# Altium integrated library Panasonic Relays Power Relays (Over 2A).IntLib: 286 symbols (part 1 of 8)
Pins are listed as number, name and electrical type; pins without a type are passive.

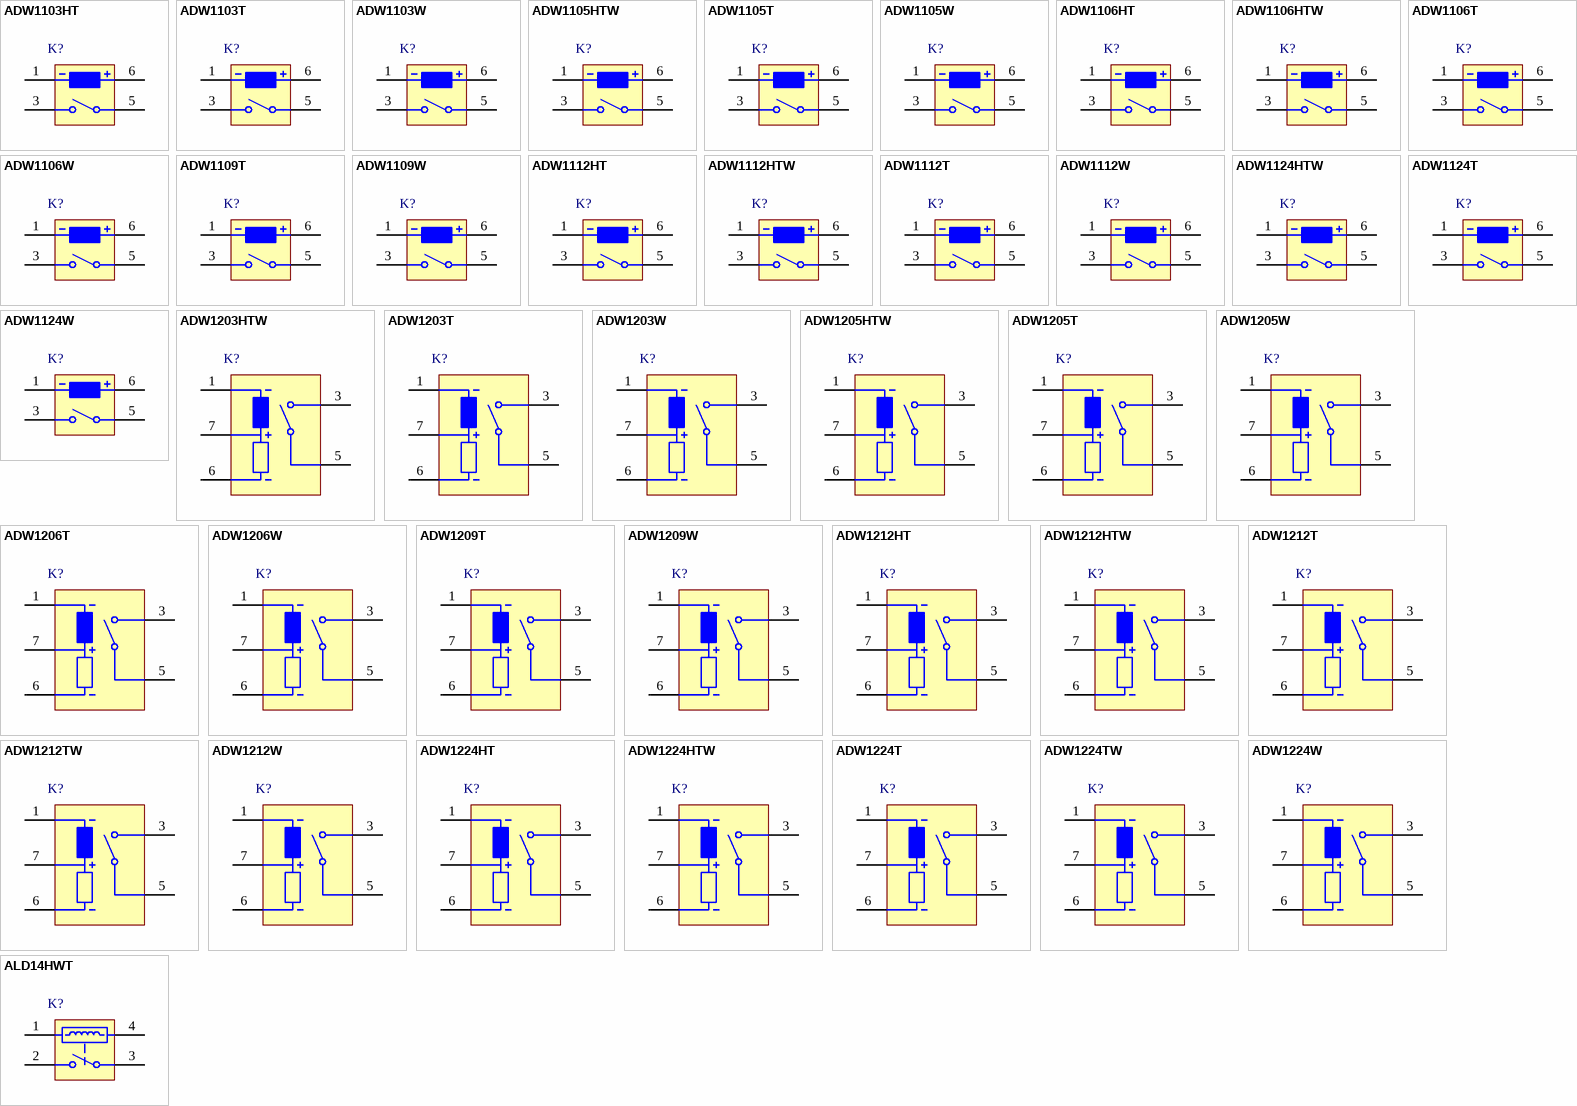
[diagram p0: symbols ADW1103HT to ALD14HWT]

## ADW1103HT
designator K?
DW Relays, 3 V Coil Voltage, 200 mW Nominal Operating Power, -40 to 70 degC, 4-Pin DW-B, Carton, Case, RoHS; Manufacturer: Panasonic; PartNumber: ADW1103HT; Coil Voltage: 3 V; Electrical Life: 2x10^4; Max Switching Current: 16 A AC; Max Switching Voltage: 277 V AC; Mechanical Life(Min.operation): 1x10^6; Nominal Operating Power: 200 mW; Pb-Free: True; DatasheetVersion: 201411-T; PackageVersion: ASCTB8E, 02/2014; PackageReference: DW-4-2400x1000x1880-B; PackageDescription: 4-Pin Through Hole Terminal Package, Body 24 x 10 mm; Supplier 1: Mouser; Supplier Part Number 1: 769-ADW1103HT; Supplier 2: Digi-Key; Supplier Part Number 2: ADW1103HT-ND; Packing: Carton, Case; RoHS: True; Series: DW Relays; Mounting Technology: Through Hole; ComponentLink1Description: Manufacturer URL; ComponentLink1URL: http://www3.panasonic.biz/ac/ae/index.jsp; ComponentLink2Description: Datasheet; ComponentLink2URL: http://www3.panasonic.biz/ac/e_download/control/relay/power/catalog/mech_eng_dw.pdf?f_cd=400632; ComponentLink3Description: Package Specification; ComponentLink3URL: http://www3.panasonic.biz/ac/e_download/control/relay/power/catalog/mech_eng_dw.pdf?f_cd=400632
footprint PNSC-DW-4-2400x1000x1880-B_V (DW, 4-Leads, Body 24x10mm)
pins: 1 -, 3, 5, 6 +

## ADW1103T
designator K?
DW Relays, 3 V Coil Voltage, 200 mW Nominal Operating Power, -40 to 85 degC, 4-Pin DW-B, Carton, Case, RoHS; Manufacturer: Panasonic; PartNumber: ADW1103T; Coil Voltage: 3 V; Electrical Life: 5x10^4; Max Switching Current: 8 A AC; Max Switching Voltage: 250 V AC; Mechanical Life(Min.operation): 1x10^6; Nominal Operating Power: 200 mW; Pb-Free: True; DatasheetVersion: 201411-T; PackageVersion: ASCTB8E, 02/2014; PackageReference: DW-4-2400x1000x1880-B; PackageDescription: 4-Pin Through Hole Terminal Package, Body 24 x 10 mm; Supplier 1: Mouser; Supplier Part Number 1: N/A; Packing: Carton, Case; RoHS: True; Series: DW Relays; Mounting Technology: Through Hole; ComponentLink1Description: Manufacturer URL; ComponentLink1URL: http://www3.panasonic.biz/ac/ae/index.jsp; ComponentLink2Description: Datasheet; ComponentLink2URL: http://www3.panasonic.biz/ac/e_download/control/relay/power/catalog/mech_eng_dw.pdf?f_cd=400632; ComponentLink3Description: Package Specification; ComponentLink3URL: http://www3.panasonic.biz/ac/e_download/control/relay/power/catalog/mech_eng_dw.pdf?f_cd=400632
footprint PNSC-DW-4-2400x1000x1880-B_V (DW, 4-Leads, Body 24x10mm)
pins: 1 -, 3, 5, 6 +

## ADW1103W
designator K?
DW Relays, 3 V Coil Voltage, 200 mW Nominal Operating Power, -40 to 85 degC, 4-Pin DW-W, Carton, Case, RoHS; Manufacturer: Panasonic; PartNumber: ADW1103W; Coil Voltage: 3 V; Electrical Life: 5x10^4; Max Switching Current: 8 A AC; Max Switching Voltage: 250 V AC; Mechanical Life(Min.operation): 1x10^6; Nominal Operating Power: 200 mW; Pb-Free: True; DatasheetVersion: 201411-T; PackageVersion: ASCTB8E, 02/2014; PackageReference: DW-4-2400x1000x1880-W; PackageDescription: 4-Pin Through Hole Terminal Package, Body 24 x 10 mm; Supplier 1: Mouser; Supplier Part Number 1: 769-ADW1103W; Supplier 2: Digi-Key; Supplier Part Number 2: ADW1103W-ND; Packing: Carton, Case; RoHS: True; Series: DW Relays; Mounting Technology: Through Hole; ComponentLink1Description: Manufacturer URL; ComponentLink1URL: http://www3.panasonic.biz/ac/ae/index.jsp; ComponentLink2Description: Datasheet; ComponentLink2URL: http://www3.panasonic.biz/ac/e_download/control/relay/power/catalog/mech_eng_dw.pdf?f_cd=400632; ComponentLink3Description: Package Specification; ComponentLink3URL: http://www3.panasonic.biz/ac/e_download/control/relay/power/catalog/mech_eng_dw.pdf?f_cd=400632
footprint PNSC-DW-4-2400x1000x1880-W_V (DW, 4-Leads, Body 24x10mm)
pins: 1 -, 3, 5, 6 +

## ADW1105HTW
designator K?
DW Relays, 5 V Coil Voltage, 200 mW Nominal Operating Power, -40 to 70 degC, 4-Pin DW-B, Carton, Case, RoHS; Manufacturer: Panasonic; PartNumber: ADW1105HTW; Coil Voltage: 5 V; Electrical Life: 2x10^4; Max Switching Current: 16 A AC; Max Switching Voltage: 277 V AC; Mechanical Life(Min.operation): 1x10^6; Nominal Operating Power: 200 mW; Pb-Free: True; DatasheetVersion: 201411-T; PackageVersion: ASCTB8E, 02/2014; PackageReference: DW-4-2400x1000x1880-B; PackageDescription: 4-Pin Through Hole Terminal Package, Body 24 x 10 mm; Supplier 1: Mouser; Supplier Part Number 1: 769-ADW1105HTW; Supplier 2: Digi-Key; Supplier Part Number 2: ADW1105HTW-ND; Packing: Carton, Case; RoHS: True; Series: DW Relays; Mounting Technology: Through Hole; ComponentLink1Description: Manufacturer URL; ComponentLink1URL: http://www3.panasonic.biz/ac/ae/index.jsp; ComponentLink2Description: Datasheet; ComponentLink2URL: http://www3.panasonic.biz/ac/e_download/control/relay/power/catalog/mech_eng_dw.pdf?f_cd=400632; ComponentLink3Description: Package Specification; ComponentLink3URL: http://www3.panasonic.biz/ac/e_download/control/relay/power/catalog/mech_eng_dw.pdf?f_cd=400632
footprint PNSC-DW-4-2400x1000x1880-B_V (DW, 4-Leads, Body 24x10mm)
pins: 1 -, 3, 5, 6 +

## ADW1105T
designator K?
DW Relays, 5 V Coil Voltage, 200 mW Nominal Operating Power, -40 to 85 degC, 4-Pin DW-B, Carton, Case, RoHS; Manufacturer: Panasonic; PartNumber: ADW1105T; Coil Voltage: 5 V; Electrical Life: 5x10^4; Max Switching Current: 8 A AC; Max Switching Voltage: 250 V AC; Mechanical Life(Min.operation): 1x10^6; Nominal Operating Power: 200 mW; Pb-Free: True; DatasheetVersion: 201411-T; PackageVersion: ASCTB8E, 02/2014; PackageReference: DW-4-2400x1000x1880-B; PackageDescription: 4-Pin Through Hole Terminal Package, Body 24 x 10 mm; Supplier 1: Mouser; Supplier Part Number 1: N/A; Packing: Carton, Case; RoHS: True; Series: DW Relays; Mounting Technology: Through Hole; ComponentLink1Description: Manufacturer URL; ComponentLink1URL: http://www3.panasonic.biz/ac/ae/index.jsp; ComponentLink2Description: Datasheet; ComponentLink2URL: http://www3.panasonic.biz/ac/e_download/control/relay/power/catalog/mech_eng_dw.pdf?f_cd=400632; ComponentLink3Description: Package Specification; ComponentLink3URL: http://www3.panasonic.biz/ac/e_download/control/relay/power/catalog/mech_eng_dw.pdf?f_cd=400632
footprint PNSC-DW-4-2400x1000x1880-B_V (DW, 4-Leads, Body 24x10mm)
pins: 1 -, 3, 5, 6 +

## ADW1105W
designator K?
DW Relays, 5 V Coil Voltage, 200 mW Nominal Operating Power, -40 to 85 degC, 4-Pin DW-W, Carton, Case, RoHS; Manufacturer: Panasonic; PartNumber: ADW1105W; Coil Voltage: 5 V; Electrical Life: 5x10^4; Max Switching Current: 8 A AC; Max Switching Voltage: 250 V AC; Mechanical Life(Min.operation): 1x10^6; Nominal Operating Power: 200 mW; Pb-Free: True; DatasheetVersion: 201411-T; PackageVersion: ASCTB8E, 02/2014; PackageReference: DW-4-2400x1000x1880-W; PackageDescription: 4-Pin Through Hole Terminal Package, Body 24 x 10 mm; Supplier 1: Mouser; Supplier Part Number 1: 769-ADW1105W; Supplier 2: Digi-Key; Supplier Part Number 2: ADW1105W-ND; Packing: Carton, Case; RoHS: True; Series: DW Relays; Mounting Technology: Through Hole; ComponentLink1Description: Manufacturer URL; ComponentLink1URL: http://www3.panasonic.biz/ac/ae/index.jsp; ComponentLink2Description: Datasheet; ComponentLink2URL: http://www3.panasonic.biz/ac/e_download/control/relay/power/catalog/mech_eng_dw.pdf?f_cd=400632; ComponentLink3Description: Package Specification; ComponentLink3URL: http://www3.panasonic.biz/ac/e_download/control/relay/power/catalog/mech_eng_dw.pdf?f_cd=400632
footprint PNSC-DW-4-2400x1000x1880-W_V (DW, 4-Leads, Body 24x10mm)
pins: 1 -, 3, 5, 6 +

## ADW1106HT
designator K?
DW Relays, 6 V Coil Voltage, 200 mW Nominal Operating Power, -40 to 70 degC, 4-Pin DW-B, Carton, Case, RoHS; Manufacturer: Panasonic; PartNumber: ADW1106HT; Coil Voltage: 6 V; Electrical Life: 2x10^4; Max Switching Current: 16 A AC; Max Switching Voltage: 277 V AC; Mechanical Life(Min.operation): 1x10^6; Nominal Operating Power: 200 mW; Pb-Free: True; DatasheetVersion: 201411-T; PackageVersion: ASCTB8E, 02/2014; PackageReference: DW-4-2400x1000x1880-B; PackageDescription: 4-Pin Through Hole Terminal Package, Body 24 x 10 mm; Supplier 1: Mouser; Supplier Part Number 1: 769-ADW1106HT; Supplier 2: Digi-Key; Supplier Part Number 2: ADW1106HT-ND; Packing: Carton, Case; RoHS: True; Series: DW Relays; Mounting Technology: Through Hole; ComponentLink1Description: Manufacturer URL; ComponentLink1URL: http://www3.panasonic.biz/ac/ae/index.jsp; ComponentLink2Description: Datasheet; ComponentLink2URL: http://www3.panasonic.biz/ac/e_download/control/relay/power/catalog/mech_eng_dw.pdf?f_cd=400632; ComponentLink3Description: Package Specification; ComponentLink3URL: http://www3.panasonic.biz/ac/e_download/control/relay/power/catalog/mech_eng_dw.pdf?f_cd=400632
footprint PNSC-DW-4-2400x1000x1880-B_V (DW, 4-Leads, Body 24x10mm)
pins: 1 -, 3, 5, 6 +

## ADW1106HTW
designator K?
DW Relays, 6 V Coil Voltage, 200 mW Nominal Operating Power, -40 to 70 degC, 4-Pin DW-B, Carton, Case, RoHS; Manufacturer: Panasonic; PartNumber: ADW1106HTW; Coil Voltage: 6 V; Electrical Life: 2x10^4; Max Switching Current: 16 A AC; Max Switching Voltage: 277 V AC; Mechanical Life(Min.operation): 1x10^6; Nominal Operating Power: 200 mW; Pb-Free: True; DatasheetVersion: 201411-T; PackageVersion: ASCTB8E, 02/2014; PackageReference: DW-4-2400x1000x1880-B; PackageDescription: 4-Pin Through Hole Terminal Package, Body 24 x 10 mm; Supplier 1: Mouser; Supplier Part Number 1: 769-ADW1106HTW; Supplier 2: Digi-Key; Supplier Part Number 2: ADW1106HTW-ND; Packing: Carton, Case; RoHS: True; Series: DW Relays; Mounting Technology: Through Hole; ComponentLink1Description: Manufacturer URL; ComponentLink1URL: http://www3.panasonic.biz/ac/ae/index.jsp; ComponentLink2Description: Datasheet; ComponentLink2URL: http://www3.panasonic.biz/ac/e_download/control/relay/power/catalog/mech_eng_dw.pdf?f_cd=400632; ComponentLink3Description: Package Specification; ComponentLink3URL: http://www3.panasonic.biz/ac/e_download/control/relay/power/catalog/mech_eng_dw.pdf?f_cd=400632
footprint PNSC-DW-4-2400x1000x1880-B_V (DW, 4-Leads, Body 24x10mm)
pins: 1 -, 3, 5, 6 +

## ADW1106T
designator K?
DW Relays, 6 V Coil Voltage, 200 mW Nominal Operating Power, -40 to 85 degC, 4-Pin DW-B, Carton, Case, RoHS; Manufacturer: Panasonic; PartNumber: ADW1106T; Coil Voltage: 6 V; Electrical Life: 5x10^4; Max Switching Current: 8 A AC; Max Switching Voltage: 250 V AC; Mechanical Life(Min.operation): 1x10^6; Nominal Operating Power: 200 mW; Pb-Free: True; DatasheetVersion: 201411-T; PackageVersion: ASCTB8E, 02/2014; PackageReference: DW-4-2400x1000x1880-B; PackageDescription: 4-Pin Through Hole Terminal Package, Body 24 x 10 mm; Supplier 1: Mouser; Supplier Part Number 1: N/A; Packing: Carton, Case; RoHS: True; Series: DW Relays; Mounting Technology: Through Hole; ComponentLink1Description: Manufacturer URL; ComponentLink1URL: http://www3.panasonic.biz/ac/ae/index.jsp; ComponentLink2Description: Datasheet; ComponentLink2URL: http://www3.panasonic.biz/ac/e_download/control/relay/power/catalog/mech_eng_dw.pdf?f_cd=400632; ComponentLink3Description: Package Specification; ComponentLink3URL: http://www3.panasonic.biz/ac/e_download/control/relay/power/catalog/mech_eng_dw.pdf?f_cd=400632
footprint PNSC-DW-4-2400x1000x1880-B_V (DW, 4-Leads, Body 24x10mm)
pins: 1 -, 3, 5, 6 +

## ADW1106W
designator K?
DW Relays, 6 V Coil Voltage, 200 mW Nominal Operating Power, -40 to 85 degC, 4-Pin DW-W, Carton, Case, RoHS; Manufacturer: Panasonic; PartNumber: ADW1106W; Coil Voltage: 6 V; Electrical Life: 5x10^4; Max Switching Current: 8 A AC; Max Switching Voltage: 250 V AC; Mechanical Life(Min.operation): 1x10^6; Nominal Operating Power: 200 mW; Pb-Free: True; DatasheetVersion: 201411-T; PackageVersion: ASCTB8E, 02/2014; PackageReference: DW-4-2400x1000x1880-W; PackageDescription: 4-Pin Through Hole Terminal Package, Body 24 x 10 mm; Supplier 1: Mouser; Supplier Part Number 1: 769-ADW1106W; Supplier 2: Digi-Key; Supplier Part Number 2: ADW1106W-ND; Packing: Carton, Case; RoHS: True; Series: DW Relays; Mounting Technology: Through Hole; ComponentLink1Description: Manufacturer URL; ComponentLink1URL: http://www3.panasonic.biz/ac/ae/index.jsp; ComponentLink2Description: Datasheet; ComponentLink2URL: http://www3.panasonic.biz/ac/e_download/control/relay/power/catalog/mech_eng_dw.pdf?f_cd=400632; ComponentLink3Description: Package Specification; ComponentLink3URL: http://www3.panasonic.biz/ac/e_download/control/relay/power/catalog/mech_eng_dw.pdf?f_cd=400632
footprint PNSC-DW-4-2400x1000x1880-W_V (DW, 4-Leads, Body 24x10mm)
pins: 1 -, 3, 5, 6 +

## ADW1109T
designator K?
DW Relays, 9 V Coil Voltage, 200 mW Nominal Operating Power, -40 to 85 degC, 4-Pin DW-B, Carton, Case, RoHS; Manufacturer: Panasonic; PartNumber: ADW1109T; Coil Voltage: 9 V; Electrical Life: 5x10^4; Max Switching Current: 8 A AC; Max Switching Voltage: 250 V AC; Mechanical Life(Min.operation): 1x10^6; Nominal Operating Power: 200 mW; Pb-Free: True; DatasheetVersion: 201411-T; PackageVersion: ASCTB8E, 02/2014; PackageReference: DW-4-2400x1000x1880-B; PackageDescription: 4-Pin Through Hole Terminal Package, Body 24 x 10 mm; Supplier 1: Mouser; Supplier Part Number 1: N/A; Packing: Carton, Case; RoHS: True; Series: DW Relays; Mounting Technology: Through Hole; ComponentLink1Description: Manufacturer URL; ComponentLink1URL: http://www3.panasonic.biz/ac/ae/index.jsp; ComponentLink2Description: Datasheet; ComponentLink2URL: http://www3.panasonic.biz/ac/e_download/control/relay/power/catalog/mech_eng_dw.pdf?f_cd=400632; ComponentLink3Description: Package Specification; ComponentLink3URL: http://www3.panasonic.biz/ac/e_download/control/relay/power/catalog/mech_eng_dw.pdf?f_cd=400632
footprint PNSC-DW-4-2400x1000x1880-B_V (DW, 4-Leads, Body 24x10mm)
pins: 1 -, 3, 5, 6 +

## ADW1109W
designator K?
DW Relays, 9 V Coil Voltage, 200 mW Nominal Operating Power, -40 to 85 degC, 4-Pin DW-W, Carton, Case, RoHS; Manufacturer: Panasonic; PartNumber: ADW1109W; Coil Voltage: 9 V; Electrical Life: 5x10^4; Max Switching Current: 8 A AC; Max Switching Voltage: 250 V AC; Mechanical Life(Min.operation): 1x10^6; Nominal Operating Power: 200 mW; Pb-Free: True; DatasheetVersion: 201411-T; PackageVersion: ASCTB8E, 02/2014; PackageReference: DW-4-2400x1000x1880-W; PackageDescription: 4-Pin Through Hole Terminal Package, Body 24 x 10 mm; Supplier 1: Mouser; Supplier Part Number 1: 769-ADW1109W; Supplier 2: Digi-Key; Supplier Part Number 2: ADW1109W-ND; Packing: Carton, Case; RoHS: True; Series: DW Relays; Mounting Technology: Through Hole; ComponentLink1Description: Manufacturer URL; ComponentLink1URL: http://www3.panasonic.biz/ac/ae/index.jsp; ComponentLink2Description: Datasheet; ComponentLink2URL: http://www3.panasonic.biz/ac/e_download/control/relay/power/catalog/mech_eng_dw.pdf?f_cd=400632; ComponentLink3Description: Package Specification; ComponentLink3URL: http://www3.panasonic.biz/ac/e_download/control/relay/power/catalog/mech_eng_dw.pdf?f_cd=400632
footprint PNSC-DW-4-2400x1000x1880-W_V (DW, 4-Leads, Body 24x10mm)
pins: 1 -, 3, 5, 6 +

## ADW1112HT
designator K?
DW Relays, 12 V Coil Voltage, 200 mW Nominal Operating Power, -40 to 70 degC, 4-Pin DW-B, Carton, Case, RoHS; Manufacturer: Panasonic; PartNumber: ADW1112HT; Coil Voltage: 12 V; Electrical Life: 2x10^4; Max Switching Current: 16 A AC; Max Switching Voltage: 277 V AC; Mechanical Life(Min.operation): 1x10^6; Nominal Operating Power: 200 mW; Pb-Free: True; DatasheetVersion: 201411-T; PackageVersion: ASCTB8E, 02/2014; PackageReference: DW-4-2400x1000x1880-B; PackageDescription: 4-Pin Through Hole Terminal Package, Body 24 x 10 mm; Supplier 1: Mouser; Supplier Part Number 1: 769-ADW1112HT; Supplier 2: Digi-Key; Supplier Part Number 2: ADW1112HT-ND; Packing: Carton, Case; RoHS: True; Series: DW Relays; Mounting Technology: Through Hole; ComponentLink1Description: Manufacturer URL; ComponentLink1URL: http://www3.panasonic.biz/ac/ae/index.jsp; ComponentLink2Description: Datasheet; ComponentLink2URL: http://www3.panasonic.biz/ac/e_download/control/relay/power/catalog/mech_eng_dw.pdf?f_cd=400632; ComponentLink3Description: Package Specification; ComponentLink3URL: http://www3.panasonic.biz/ac/e_download/control/relay/power/catalog/mech_eng_dw.pdf?f_cd=400632
footprint PNSC-DW-4-2400x1000x1880-B_V (DW, 4-Leads, Body 24x10mm)
pins: 1 -, 3, 5, 6 +

## ADW1112HTW
designator K?
DW Relays, 12 V Coil Voltage, 200 mW Nominal Operating Power, -40 to 70 degC, 4-Pin DW-B, Carton, Case, RoHS; Manufacturer: Panasonic; PartNumber: ADW1112HTW; Coil Voltage: 12 V; Electrical Life: 2x10^4; Max Switching Current: 16 A AC; Max Switching Voltage: 277 V AC; Mechanical Life(Min.operation): 1x10^6; Nominal Operating Power: 200 mW; Pb-Free: True; DatasheetVersion: 201411-T; PackageVersion: ASCTB8E, 02/2014; PackageReference: DW-4-2400x1000x1880-B; PackageDescription: 4-Pin Through Hole Terminal Package, Body 24 x 10 mm; Supplier 1: Mouser; Supplier Part Number 1: 769-ADW1112HTW; Supplier 2: Digi-Key; Supplier Part Number 2: ADW1112HTW-ND; Packing: Carton, Case; RoHS: True; Series: DW Relays; Mounting Technology: Through Hole; ComponentLink1Description: Manufacturer URL; ComponentLink1URL: http://www3.panasonic.biz/ac/ae/index.jsp; ComponentLink2Description: Datasheet; ComponentLink2URL: http://www3.panasonic.biz/ac/e_download/control/relay/power/catalog/mech_eng_dw.pdf?f_cd=400632; ComponentLink3Description: Package Specification; ComponentLink3URL: http://www3.panasonic.biz/ac/e_download/control/relay/power/catalog/mech_eng_dw.pdf?f_cd=400632
footprint PNSC-DW-4-2400x1000x1880-B_V (DW, 4-Leads, Body 24x10mm)
pins: 1 -, 3, 5, 6 +

## ADW1112T
designator K?
DW Relays, 12 V Coil Voltage, 200 mW Nominal Operating Power, -40 to 85 degC, 4-Pin DW-B, Carton, Case, RoHS; Manufacturer: Panasonic; PartNumber: ADW1112T; Coil Voltage: 12 V; Electrical Life: 5x10^4; Max Switching Current: 8 A AC; Max Switching Voltage: 250 V AC; Mechanical Life(Min.operation): 1x10^6; Nominal Operating Power: 200 mW; Pb-Free: True; DatasheetVersion: 201411-T; PackageVersion: ASCTB8E, 02/2014; PackageReference: DW-4-2400x1000x1880-B; PackageDescription: 4-Pin Through Hole Terminal Package, Body 24 x 10 mm; Supplier 1: Mouser; Supplier Part Number 1: N/A; Packing: Carton, Case; RoHS: True; Series: DW Relays; Mounting Technology: Through Hole; ComponentLink1Description: Manufacturer URL; ComponentLink1URL: http://www3.panasonic.biz/ac/ae/index.jsp; ComponentLink2Description: Datasheet; ComponentLink2URL: http://www3.panasonic.biz/ac/e_download/control/relay/power/catalog/mech_eng_dw.pdf?f_cd=400632; ComponentLink3Description: Package Specification; ComponentLink3URL: http://www3.panasonic.biz/ac/e_download/control/relay/power/catalog/mech_eng_dw.pdf?f_cd=400632
footprint PNSC-DW-4-2400x1000x1880-B_V (DW, 4-Leads, Body 24x10mm)
pins: 1 -, 3, 5, 6 +

## ADW1112W
designator K?
DW Relays, 12 V Coil Voltage, 200 mW Nominal Operating Power, -40 to 85 degC, 4-Pin DW-W, Carton, Case, RoHS; Manufacturer: Panasonic; PartNumber: ADW1112W; Coil Voltage: 12 V; Electrical Life: 5x10^4; Max Switching Current: 8 A AC; Max Switching Voltage: 250 V AC; Mechanical Life(Min.operation): 1x10^6; Nominal Operating Power: 200 mW; Pb-Free: True; DatasheetVersion: 201411-T; PackageVersion: ASCTB8E, 02/2014; PackageReference: DW-4-2400x1000x1880-W; PackageDescription: 4-Pin Through Hole Terminal Package, Body 24 x 10 mm; Supplier 1: Mouser; Supplier Part Number 1: 769-ADW1112W; Supplier 2: Digi-Key; Supplier Part Number 2: ADW1112W-ND; Packing: Carton, Case; RoHS: True; Series: DW Relays; Mounting Technology: Through Hole; ComponentLink1Description: Manufacturer URL; ComponentLink1URL: http://www3.panasonic.biz/ac/ae/index.jsp; ComponentLink2Description: Datasheet; ComponentLink2URL: http://www3.panasonic.biz/ac/e_download/control/relay/power/catalog/mech_eng_dw.pdf?f_cd=400632; ComponentLink3Description: Package Specification; ComponentLink3URL: http://www3.panasonic.biz/ac/e_download/control/relay/power/catalog/mech_eng_dw.pdf?f_cd=400632
footprint PNSC-DW-4-2400x1000x1880-W_V (DW, 4-Leads, Body 24x10mm)
pins: 1 -, 3, 5, 6 +

## ADW1124HTW
designator K?
DW Relays, 24 V Coil Voltage, 200 mW Nominal Operating Power, -40 to 70 degC, 4-Pin DW-B, Carton, Case, RoHS; Manufacturer: Panasonic; PartNumber: ADW1124HTW; Coil Voltage: 24 V; Electrical Life: 2x10^4; Max Switching Current: 16 A AC; Max Switching Voltage: 277 V AC; Mechanical Life(Min.operation): 1x10^6; Nominal Operating Power: 200 mW; Pb-Free: True; DatasheetVersion: 201411-T; PackageVersion: ASCTB8E, 02/2014; PackageReference: DW-4-2400x1000x1880-B; PackageDescription: 4-Pin Through Hole Terminal Package, Body 24 x 10 mm; Supplier 1: Mouser; Supplier Part Number 1: 769-ADW1124HTW; Supplier 2: Digi-Key; Supplier Part Number 2: ADW1124HTW-ND; Packing: Carton, Case; RoHS: True; Series: DW Relays; Mounting Technology: Through Hole; ComponentLink1Description: Manufacturer URL; ComponentLink1URL: http://www3.panasonic.biz/ac/ae/index.jsp; ComponentLink2Description: Datasheet; ComponentLink2URL: http://www3.panasonic.biz/ac/e_download/control/relay/power/catalog/mech_eng_dw.pdf?f_cd=400632; ComponentLink3Description: Package Specification; ComponentLink3URL: http://www3.panasonic.biz/ac/e_download/control/relay/power/catalog/mech_eng_dw.pdf?f_cd=400632
footprint PNSC-DW-4-2400x1000x1880-B_V (DW, 4-Leads, Body 24x10mm)
pins: 1 -, 3, 5, 6 +

## ADW1124T
designator K?
DW Relays, 24 V Coil Voltage, 200 mW Nominal Operating Power, -40 to 85 degC, 4-Pin DW-B, Carton, Case, RoHS; Manufacturer: Panasonic; PartNumber: ADW1124T; Coil Voltage: 24 V; Electrical Life: 5x10^4; Max Switching Current: 8 A AC; Max Switching Voltage: 250 V AC; Mechanical Life(Min.operation): 1x10^6; Nominal Operating Power: 200 mW; Pb-Free: True; DatasheetVersion: 201411-T; PackageVersion: ASCTB8E, 02/2014; PackageReference: DW-4-2400x1000x1880-B; PackageDescription: 4-Pin Through Hole Terminal Package, Body 24 x 10 mm; Supplier 1: Mouser; Supplier Part Number 1: N/A; Packing: Carton, Case; RoHS: True; Series: DW Relays; Mounting Technology: Through Hole; ComponentLink1Description: Manufacturer URL; ComponentLink1URL: http://www3.panasonic.biz/ac/ae/index.jsp; ComponentLink2Description: Datasheet; ComponentLink2URL: http://www3.panasonic.biz/ac/e_download/control/relay/power/catalog/mech_eng_dw.pdf?f_cd=400632; ComponentLink3Description: Package Specification; ComponentLink3URL: http://www3.panasonic.biz/ac/e_download/control/relay/power/catalog/mech_eng_dw.pdf?f_cd=400632
footprint PNSC-DW-4-2400x1000x1880-B_V (DW, 4-Leads, Body 24x10mm)
pins: 1 -, 3, 5, 6 +

## ADW1124W
designator K?
DW Relays, 24 V Coil Voltage, 200 mW Nominal Operating Power, -40 to 85 degC, 4-Pin DW-W, Carton, Case, RoHS; Manufacturer: Panasonic; PartNumber: ADW1124W; Coil Voltage: 24 V; Electrical Life: 5x10^4; Max Switching Current: 8 A AC; Max Switching Voltage: 250 V AC; Mechanical Life(Min.operation): 1x10^6; Nominal Operating Power: 200 mW; Pb-Free: True; DatasheetVersion: 201411-T; PackageVersion: ASCTB8E, 02/2014; PackageReference: DW-4-2400x1000x1880-W; PackageDescription: 4-Pin Through Hole Terminal Package, Body 24 x 10 mm; Supplier 1: Mouser; Supplier Part Number 1: 769-ADW1124W; Supplier 2: Digi-Key; Supplier Part Number 2: ADW1124W-ND; Packing: Carton, Case; RoHS: True; Series: DW Relays; Mounting Technology: Through Hole; ComponentLink1Description: Manufacturer URL; ComponentLink1URL: http://www3.panasonic.biz/ac/ae/index.jsp; ComponentLink2Description: Datasheet; ComponentLink2URL: http://www3.panasonic.biz/ac/e_download/control/relay/power/catalog/mech_eng_dw.pdf?f_cd=400632; ComponentLink3Description: Package Specification; ComponentLink3URL: http://www3.panasonic.biz/ac/e_download/control/relay/power/catalog/mech_eng_dw.pdf?f_cd=400632
footprint PNSC-DW-4-2400x1000x1880-W_V (DW, 4-Leads, Body 24x10mm)
pins: 1 -, 3, 5, 6 +

## ADW1203HTW
designator K?
DW Relays, 3 V Coil Voltage, 400 mW Nominal Operating Power, -40 to 70 degC, 5-Pin DW-B, Carton, Case, RoHS; Manufacturer: Panasonic; PartNumber: ADW1203HTW; Coil Voltage: 3 V; Electrical Life: 2x10^4; Max Switching Current: 16 A AC; Max Switching Voltage: 277 V AC; Mechanical Life(Min.operation): 1x10^6; Nominal Operating Power: 400 mW; Pb-Free: True; DatasheetVersion: 201411-T; PackageVersion: ASCTB8E, 02/2014; PackageReference: DW-5-2400x1000x1880-B; PackageDescription: 5-Pin Through Hole Terminal Package, Body 24 x 10 mm; Supplier 1: Mouser; Supplier Part Number 1: 769-ADW1203HTW; Supplier 2: Digi-Key; Supplier Part Number 2: ADW1203HTW-ND; Packing: Carton, Case; RoHS: True; Series: DW Relays; Mounting Technology: Through Hole; ComponentLink1Description: Manufacturer URL; ComponentLink1URL: http://www3.panasonic.biz/ac/ae/index.jsp; ComponentLink2Description: Datasheet; ComponentLink2URL: http://www3.panasonic.biz/ac/e_download/control/relay/power/catalog/mech_eng_dw.pdf?f_cd=400632; ComponentLink3Description: Package Specification; ComponentLink3URL: http://www3.panasonic.biz/ac/e_download/control/relay/power/catalog/mech_eng_dw.pdf?f_cd=400632
footprint PNSC-DW-5-2400x1000x1880-B_V (DW, 5-Leads, Body 24x10mm)
pins: 1 -, 3, 5, 6 -, 7 +

## ADW1203T
designator K?
DW Relays, 3 V Coil Voltage, 400 mW Nominal Operating Power, -40 to 85 degC, 5-Pin DW-B, Carton, Case, RoHS; Manufacturer: Panasonic; PartNumber: ADW1203T; Coil Voltage: 3 V; Electrical Life: 5x10^4; Max Switching Current: 8 A AC; Max Switching Voltage: 250 V AC; Mechanical Life(Min.operation): 1x10^6; Nominal Operating Power: 400 mW; Pb-Free: True; DatasheetVersion: 201411-T; PackageVersion: ASCTB8E, 02/2014; PackageReference: DW-5-2400x1000x1880-B; PackageDescription: 5-Pin Through Hole Terminal Package, Body 24 x 10 mm; Supplier 1: Mouser; Supplier Part Number 1: N/A; Packing: Carton, Case; RoHS: True; Series: DW Relays; Mounting Technology: Through Hole; ComponentLink1Description: Manufacturer URL; ComponentLink1URL: http://www3.panasonic.biz/ac/ae/index.jsp; ComponentLink2Description: Datasheet; ComponentLink2URL: http://www3.panasonic.biz/ac/e_download/control/relay/power/catalog/mech_eng_dw.pdf?f_cd=400632; ComponentLink3Description: Package Specification; ComponentLink3URL: http://www3.panasonic.biz/ac/e_download/control/relay/power/catalog/mech_eng_dw.pdf?f_cd=400632
footprint PNSC-DW-5-2400x1000x1880-B_V (DW, 5-Leads, Body 24x10mm)
pins: 1 -, 3, 5, 6 -, 7 +

## ADW1203W
designator K?
DW Relays, 3 V Coil Voltage, 400 mW Nominal Operating Power, -40 to 85 degC, 5-Pin DW-W, Carton, Case, RoHS; Manufacturer: Panasonic; PartNumber: ADW1203W; Coil Voltage: 3 V; Electrical Life: 5x10^4; Max Switching Current: 8 A AC; Max Switching Voltage: 250 V AC; Mechanical Life(Min.operation): 1x10^6; Nominal Operating Power: 400 mW; Pb-Free: True; DatasheetVersion: 201411-T; PackageVersion: ASCTB8E, 02/2014; PackageReference: DW-5-2400x1000x1880-W; PackageDescription: 5-Pin Through Hole Terminal Package, Body 24 x 10 mm; Supplier 1: Mouser; Supplier Part Number 1: 769-ADW1203W; Supplier 2: Digi-Key; Supplier Part Number 2: 255-3116-ND; Packing: Carton, Case; RoHS: True; Series: DW Relays; Mounting Technology: Through Hole; ComponentLink1Description: Manufacturer URL; ComponentLink1URL: http://www3.panasonic.biz/ac/ae/index.jsp; ComponentLink2Description: Datasheet; ComponentLink2URL: http://www3.panasonic.biz/ac/e_download/control/relay/power/catalog/mech_eng_dw.pdf?f_cd=400632; ComponentLink3Description: Package Specification; ComponentLink3URL: http://www3.panasonic.biz/ac/e_download/control/relay/power/catalog/mech_eng_dw.pdf?f_cd=400632
footprint PNSC-DW-5-2400x1000x1880-W_V (DW, 5-Leads, Body 24x10mm)
pins: 1 -, 3, 5, 6 -, 7 +

## ADW1205HTW
designator K?
DW Relays, 5 V Coil Voltage, 400 mW Nominal Operating Power, -40 to 70 degC, 5-Pin DW-B, Carton, Case, RoHS; Manufacturer: Panasonic; PartNumber: ADW1205HTW; Coil Voltage: 5 V; Electrical Life: 2x10^4; Max Switching Current: 16 A AC; Max Switching Voltage: 277 V AC; Mechanical Life(Min.operation): 1x10^6; Nominal Operating Power: 400 mW; Pb-Free: True; DatasheetVersion: 201411-T; PackageVersion: ASCTB8E, 02/2014; PackageReference: DW-5-2400x1000x1880-B; PackageDescription: 5-Pin Through Hole Terminal Package, Body 24 x 10 mm; Supplier 1: Mouser; Supplier Part Number 1: 769-ADW1205HTW; Supplier 2: Digi-Key; Supplier Part Number 2: ADW1205HTW-ND; Packing: Carton, Case; RoHS: True; Series: DW Relays; Mounting Technology: Through Hole; ComponentLink1Description: Manufacturer URL; ComponentLink1URL: http://www3.panasonic.biz/ac/ae/index.jsp; ComponentLink2Description: Datasheet; ComponentLink2URL: http://www3.panasonic.biz/ac/e_download/control/relay/power/catalog/mech_eng_dw.pdf?f_cd=400632; ComponentLink3Description: Package Specification; ComponentLink3URL: http://www3.panasonic.biz/ac/e_download/control/relay/power/catalog/mech_eng_dw.pdf?f_cd=400632
footprint PNSC-DW-5-2400x1000x1880-B_V (DW, 5-Leads, Body 24x10mm)
pins: 1 -, 3, 5, 6 -, 7 +

## ADW1205T
designator K?
DW Relays, 5 V Coil Voltage, 400 mW Nominal Operating Power, -40 to 85 degC, 5-Pin DW-B, Carton, Case, RoHS; Manufacturer: Panasonic; PartNumber: ADW1205T; Coil Voltage: 5 V; Electrical Life: 5x10^4; Max Switching Current: 8 A AC; Max Switching Voltage: 250 V AC; Mechanical Life(Min.operation): 1x10^6; Nominal Operating Power: 400 mW; Pb-Free: True; DatasheetVersion: 201411-T; PackageVersion: ASCTB8E, 02/2014; PackageReference: DW-5-2400x1000x1880-B; PackageDescription: 5-Pin Through Hole Terminal Package, Body 24 x 10 mm; Supplier 1: Mouser; Supplier Part Number 1: N/A; Packing: Carton, Case; RoHS: True; Series: DW Relays; Mounting Technology: Through Hole; ComponentLink1Description: Manufacturer URL; ComponentLink1URL: http://www3.panasonic.biz/ac/ae/index.jsp; ComponentLink2Description: Datasheet; ComponentLink2URL: http://www3.panasonic.biz/ac/e_download/control/relay/power/catalog/mech_eng_dw.pdf?f_cd=400632; ComponentLink3Description: Package Specification; ComponentLink3URL: http://www3.panasonic.biz/ac/e_download/control/relay/power/catalog/mech_eng_dw.pdf?f_cd=400632
footprint PNSC-DW-5-2400x1000x1880-B_V (DW, 5-Leads, Body 24x10mm)
pins: 1 -, 3, 5, 6 -, 7 +

## ADW1205W
designator K?
DW Relays, 5 V Coil Voltage, 400 mW Nominal Operating Power, -40 to 85 degC, 5-Pin DW-W, Carton, Case, RoHS; Manufacturer: Panasonic; PartNumber: ADW1205W; Coil Voltage: 5 V; Electrical Life: 5x10^4; Max Switching Current: 8 A AC; Max Switching Voltage: 250 V AC; Mechanical Life(Min.operation): 1x10^6; Nominal Operating Power: 400 mW; Pb-Free: True; DatasheetVersion: 201411-T; PackageVersion: ASCTB8E, 02/2014; PackageReference: DW-5-2400x1000x1880-W; PackageDescription: 5-Pin Through Hole Terminal Package, Body 24 x 10 mm; Supplier 1: Mouser; Supplier Part Number 1: 769-ADW1205W; Supplier 2: Digi-Key; Supplier Part Number 2: 255-3117-ND; Packing: Carton, Case; RoHS: True; Series: DW Relays; Mounting Technology: Through Hole; ComponentLink1Description: Manufacturer URL; ComponentLink1URL: http://www3.panasonic.biz/ac/ae/index.jsp; ComponentLink2Description: Datasheet; ComponentLink2URL: http://www3.panasonic.biz/ac/e_download/control/relay/power/catalog/mech_eng_dw.pdf?f_cd=400632; ComponentLink3Description: Package Specification; ComponentLink3URL: http://www3.panasonic.biz/ac/e_download/control/relay/power/catalog/mech_eng_dw.pdf?f_cd=400632
footprint PNSC-DW-5-2400x1000x1880-W_V (DW, 5-Leads, Body 24x10mm)
pins: 1 -, 3, 5, 6 -, 7 +

## ADW1206T
designator K?
DW Relays, 6 V Coil Voltage, 400 mW Nominal Operating Power, -40 to 85 degC, 5-Pin DW-B, Carton, Case, RoHS; Manufacturer: Panasonic; PartNumber: ADW1206T; Coil Voltage: 6 V; Electrical Life: 5x10^4; Max Switching Current: 8 A AC; Max Switching Voltage: 250 V AC; Mechanical Life(Min.operation): 1x10^6; Nominal Operating Power: 400 mW; Pb-Free: True; DatasheetVersion: 201411-T; PackageVersion: ASCTB8E, 02/2014; PackageReference: DW-5-2400x1000x1880-B; PackageDescription: 5-Pin Through Hole Terminal Package, Body 24 x 10 mm; Supplier 1: Mouser; Supplier Part Number 1: N/A; Packing: Carton, Case; RoHS: True; Series: DW Relays; Mounting Technology: Through Hole; ComponentLink1Description: Manufacturer URL; ComponentLink1URL: http://www3.panasonic.biz/ac/ae/index.jsp; ComponentLink2Description: Datasheet; ComponentLink2URL: http://www3.panasonic.biz/ac/e_download/control/relay/power/catalog/mech_eng_dw.pdf?f_cd=400632; ComponentLink3Description: Package Specification; ComponentLink3URL: http://www3.panasonic.biz/ac/e_download/control/relay/power/catalog/mech_eng_dw.pdf?f_cd=400632
footprint PNSC-DW-5-2400x1000x1880-B_V (DW, 5-Leads, Body 24x10mm)
pins: 1 -, 3, 5, 6 -, 7 +

## ADW1206W
designator K?
DW Relays, 6 V Coil Voltage, 400 mW Nominal Operating Power, -40 to 85 degC, 5-Pin DW-W, Carton, Case, RoHS; Manufacturer: Panasonic; PartNumber: ADW1206W; Coil Voltage: 6 V; Electrical Life: 5x10^4; Max Switching Current: 8 A AC; Max Switching Voltage: 250 V AC; Mechanical Life(Min.operation): 1x10^6; Nominal Operating Power: 400 mW; Pb-Free: True; DatasheetVersion: 201411-T; PackageVersion: ASCTB8E, 02/2014; PackageReference: DW-5-2400x1000x1880-W; PackageDescription: 5-Pin Through Hole Terminal Package, Body 24 x 10 mm; Supplier 1: Mouser; Supplier Part Number 1: 769-ADW1206W; Supplier 2: Digi-Key; Supplier Part Number 2: 255-3118-ND; Packing: Carton, Case; RoHS: True; Series: DW Relays; Mounting Technology: Through Hole; ComponentLink1Description: Manufacturer URL; ComponentLink1URL: http://www3.panasonic.biz/ac/ae/index.jsp; ComponentLink2Description: Datasheet; ComponentLink2URL: http://www3.panasonic.biz/ac/e_download/control/relay/power/catalog/mech_eng_dw.pdf?f_cd=400632; ComponentLink3Description: Package Specification; ComponentLink3URL: http://www3.panasonic.biz/ac/e_download/control/relay/power/catalog/mech_eng_dw.pdf?f_cd=400632
footprint PNSC-DW-5-2400x1000x1880-W_V (DW, 5-Leads, Body 24x10mm)
pins: 1 -, 3, 5, 6 -, 7 +

## ADW1209T
designator K?
DW Relays, 9 V Coil Voltage, 400 mW Nominal Operating Power, -40 to 85 degC, 5-Pin DW-B, Carton, Case, RoHS; Manufacturer: Panasonic; PartNumber: ADW1209T; Coil Voltage: 9 V; Electrical Life: 5x10^4; Max Switching Current: 8 A AC; Max Switching Voltage: 250 V AC; Mechanical Life(Min.operation): 1x10^6; Nominal Operating Power: 400 mW; Pb-Free: True; DatasheetVersion: 201411-T; PackageVersion: ASCTB8E, 02/2014; PackageReference: DW-5-2400x1000x1880-B; PackageDescription: 5-Pin Through Hole Terminal Package, Body 24 x 10 mm; Supplier 1: Mouser; Supplier Part Number 1: N/A; Packing: Carton, Case; RoHS: True; Series: DW Relays; Mounting Technology: Through Hole; ComponentLink1Description: Manufacturer URL; ComponentLink1URL: http://www3.panasonic.biz/ac/ae/index.jsp; ComponentLink2Description: Datasheet; ComponentLink2URL: http://www3.panasonic.biz/ac/e_download/control/relay/power/catalog/mech_eng_dw.pdf?f_cd=400632; ComponentLink3Description: Package Specification; ComponentLink3URL: http://www3.panasonic.biz/ac/e_download/control/relay/power/catalog/mech_eng_dw.pdf?f_cd=400632
footprint PNSC-DW-5-2400x1000x1880-B_V (DW, 5-Leads, Body 24x10mm)
pins: 1 -, 3, 5, 6 -, 7 +

## ADW1209W
designator K?
DW Relays, 9 V Coil Voltage, 400 mW Nominal Operating Power, -40 to 85 degC, 5-Pin DW-W, Carton, Case, RoHS; Manufacturer: Panasonic; PartNumber: ADW1209W; Coil Voltage: 9 V; Electrical Life: 5x10^4; Max Switching Current: 8 A AC; Max Switching Voltage: 250 V AC; Mechanical Life(Min.operation): 1x10^6; Nominal Operating Power: 400 mW; Pb-Free: True; DatasheetVersion: 201411-T; PackageVersion: ASCTB8E, 02/2014; PackageReference: DW-5-2400x1000x1880-W; PackageDescription: 5-Pin Through Hole Terminal Package, Body 24 x 10 mm; Supplier 1: Mouser; Supplier Part Number 1: 769-ADW1209W; Supplier 2: Digi-Key; Supplier Part Number 2: ADW1209W-ND; Packing: Carton, Case; RoHS: True; Series: DW Relays; Mounting Technology: Through Hole; ComponentLink1Description: Manufacturer URL; ComponentLink1URL: http://www3.panasonic.biz/ac/ae/index.jsp; ComponentLink2Description: Datasheet; ComponentLink2URL: http://www3.panasonic.biz/ac/e_download/control/relay/power/catalog/mech_eng_dw.pdf?f_cd=400632; ComponentLink3Description: Package Specification; ComponentLink3URL: http://www3.panasonic.biz/ac/e_download/control/relay/power/catalog/mech_eng_dw.pdf?f_cd=400632
footprint PNSC-DW-5-2400x1000x1880-W_V (DW, 5-Leads, Body 24x10mm)
pins: 1 -, 3, 5, 6 -, 7 +

## ADW1212HT
designator K?
DW Relays, 12 V Coil Voltage, 400 mW Nominal Operating Power, -40 to 70 degC, 5-Pin DW-B, Carton, Case, RoHS; Manufacturer: Panasonic; PartNumber: ADW1212HT; Coil Voltage: 12 V; Electrical Life: 2x10^4; Max Switching Current: 16 A AC; Max Switching Voltage: 277 V AC; Mechanical Life(Min.operation): 1x10^6; Nominal Operating Power: 400 mW; Pb-Free: True; DatasheetVersion: 201411-T; PackageVersion: ASCTB8E, 02/2014; PackageReference: DW-5-2400x1000x1880-B; PackageDescription: 5-Pin Through Hole Terminal Package, Body 24 x 10 mm; Supplier 1: Mouser; Supplier Part Number 1: 769-ADW1212HT; Supplier 2: Digi-Key; Supplier Part Number 2: ADW1212HT-ND; Packing: Carton, Case; RoHS: True; Series: DW Relays; Mounting Technology: Through Hole; ComponentLink1Description: Manufacturer URL; ComponentLink1URL: http://www3.panasonic.biz/ac/ae/index.jsp; ComponentLink2Description: Datasheet; ComponentLink2URL: http://www3.panasonic.biz/ac/e_download/control/relay/power/catalog/mech_eng_dw.pdf?f_cd=400632; ComponentLink3Description: Package Specification; ComponentLink3URL: http://www3.panasonic.biz/ac/e_download/control/relay/power/catalog/mech_eng_dw.pdf?f_cd=400632
footprint PNSC-DW-5-2400x1000x1880-B_V (DW, 5-Leads, Body 24x10mm)
pins: 1 -, 3, 5, 6 -, 7 +

## ADW1212HTW
designator K?
DW Relays, 12 V Coil Voltage, 400 mW Nominal Operating Power, -40 to 70 degC, 5-Pin DW-B, Carton, Case, RoHS; Manufacturer: Panasonic; PartNumber: ADW1212HTW; Coil Voltage: 12 V; Electrical Life: 2x10^4; Max Switching Current: 16 A AC; Max Switching Voltage: 277 V AC; Mechanical Life(Min.operation): 1x10^6; Nominal Operating Power: 400 mW; Pb-Free: True; DatasheetVersion: 201411-T; PackageVersion: ASCTB8E, 02/2014; PackageReference: DW-5-2400x1000x1880-B; PackageDescription: 5-Pin Through Hole Terminal Package, Body 24 x 10 mm; Supplier 1: Mouser; Supplier Part Number 1: 769-ADW1212HTW; Supplier 2: Digi-Key; Supplier Part Number 2: ADW1212HTW-ND; Packing: Carton, Case; RoHS: True; Series: DW Relays; Mounting Technology: Through Hole; ComponentLink1Description: Manufacturer URL; ComponentLink1URL: http://www3.panasonic.biz/ac/ae/index.jsp; ComponentLink2Description: Datasheet; ComponentLink2URL: http://www3.panasonic.biz/ac/e_download/control/relay/power/catalog/mech_eng_dw.pdf?f_cd=400632; ComponentLink3Description: Package Specification; ComponentLink3URL: http://www3.panasonic.biz/ac/e_download/control/relay/power/catalog/mech_eng_dw.pdf?f_cd=400632
footprint PNSC-DW-5-2400x1000x1880-B_V (DW, 5-Leads, Body 24x10mm)
pins: 1 -, 3, 5, 6 -, 7 +

## ADW1212T
designator K?
DW Relays, 12 V Coil Voltage, 400 mW Nominal Operating Power, -40 to 85 degC, 5-Pin DW-B, Carton, Case, RoHS; Manufacturer: Panasonic; PartNumber: ADW1212T; Coil Voltage: 12 V; Electrical Life: 5x10^4; Max Switching Current: 8 A AC; Max Switching Voltage: 250 V AC; Mechanical Life(Min.operation): 1x10^6; Nominal Operating Power: 400 mW; Pb-Free: True; DatasheetVersion: 201411-T; PackageVersion: ASCTB8E, 02/2014; PackageReference: DW-5-2400x1000x1880-B; PackageDescription: 5-Pin Through Hole Terminal Package, Body 24 x 10 mm; Supplier 1: Mouser; Supplier Part Number 1: N/A; Packing: Carton, Case; RoHS: True; Series: DW Relays; Mounting Technology: Through Hole; ComponentLink1Description: Manufacturer URL; ComponentLink1URL: http://www3.panasonic.biz/ac/ae/index.jsp; ComponentLink2Description: Datasheet; ComponentLink2URL: http://www3.panasonic.biz/ac/e_download/control/relay/power/catalog/mech_eng_dw.pdf?f_cd=400632; ComponentLink3Description: Package Specification; ComponentLink3URL: http://www3.panasonic.biz/ac/e_download/control/relay/power/catalog/mech_eng_dw.pdf?f_cd=400632
footprint PNSC-DW-5-2400x1000x1880-B_V (DW, 5-Leads, Body 24x10mm)
pins: 1 -, 3, 5, 6 -, 7 +

## ADW1212TW
designator K?
DW Relays, 12 V Coil Voltage, 400 mW Nominal Operating Power, -40 to 85 degC, 5-Pin DW-B, Carton, Case, RoHS; Manufacturer: Panasonic; PartNumber: ADW1212TW; Coil Voltage: 12 V; Electrical Life: 5x10^4; Max Switching Current: 8 A AC; Max Switching Voltage: 250 V AC; Mechanical Life(Min.operation): 1x10^6; Nominal Operating Power: 400 mW; Pb-Free: True; DatasheetVersion: 201411-T; PackageVersion: ASCTB8E, 02/2014; PackageReference: DW-5-2400x1000x1880-B; PackageDescription: 5-Pin Through Hole Terminal Package, Body 24 x 10 mm; Supplier 1: Mouser; Supplier Part Number 1: 769-ADW1212TW; Supplier 2: Digi-Key; Supplier Part Number 2: 255-3608-5-ND; Packing: Carton, Case; RoHS: True; Series: DW Relays; Mounting Technology: Through Hole; ComponentLink1Description: Manufacturer URL; ComponentLink1URL: http://www3.panasonic.biz/ac/ae/index.jsp; ComponentLink2Description: Datasheet; ComponentLink2URL: http://www3.panasonic.biz/ac/e_download/control/relay/power/catalog/mech_eng_dw.pdf?f_cd=400632; ComponentLink3Description: Package Specification; ComponentLink3URL: http://www3.panasonic.biz/ac/e_download/control/relay/power/catalog/mech_eng_dw.pdf?f_cd=400632
footprint PNSC-DW-5-2400x1000x1880-B_V (DW, 5-Leads, Body 24x10mm)
pins: 1 -, 3, 5, 6 -, 7 +

## ADW1212W
designator K?
DW Relays, 12 V Coil Voltage, 400 mW Nominal Operating Power, -40 to 85 degC, 5-Pin DW-W, Carton, Case, RoHS; Manufacturer: Panasonic; PartNumber: ADW1212W; Coil Voltage: 12 V; Electrical Life: 5x10^4; Max Switching Current: 8 A AC; Max Switching Voltage: 250 V AC; Mechanical Life(Min.operation): 1x10^6; Nominal Operating Power: 400 mW; Pb-Free: True; DatasheetVersion: 201411-T; PackageVersion: ASCTB8E, 02/2014; PackageReference: DW-5-2400x1000x1880-W; PackageDescription: 5-Pin Through Hole Terminal Package, Body 24 x 10 mm; Supplier 1: Mouser; Supplier Part Number 1: 769-ADW1212W; Supplier 2: Digi-Key; Supplier Part Number 2: 255-3119-ND; Packing: Carton, Case; RoHS: True; Series: DW Relays; Mounting Technology: Through Hole; ComponentLink1Description: Manufacturer URL; ComponentLink1URL: http://www3.panasonic.biz/ac/ae/index.jsp; ComponentLink2Description: Datasheet; ComponentLink2URL: http://www3.panasonic.biz/ac/e_download/control/relay/power/catalog/mech_eng_dw.pdf?f_cd=400632; ComponentLink3Description: Package Specification; ComponentLink3URL: http://www3.panasonic.biz/ac/e_download/control/relay/power/catalog/mech_eng_dw.pdf?f_cd=400632
footprint PNSC-DW-5-2400x1000x1880-W_V (DW, 5-Leads, Body 24x10mm)
pins: 1 -, 3, 5, 6 -, 7 +

## ADW1224HT
designator K?
DW Relays, 24 V Coil Voltage, 400 mW Nominal Operating Power, -40 to 70 degC, 5-Pin DW-B, Carton, Case, RoHS; Manufacturer: Panasonic; PartNumber: ADW1224HT; Coil Voltage: 24 V; Electrical Life: 2x10^4; Max Switching Current: 16 A AC; Max Switching Voltage: 277 V AC; Mechanical Life(Min.operation): 1x10^6; Nominal Operating Power: 400 mW; Pb-Free: True; DatasheetVersion: 201411-T; PackageVersion: ASCTB8E, 02/2014; PackageReference: DW-5-2400x1000x1880-B; PackageDescription: 5-Pin Through Hole Terminal Package, Body 24 x 10 mm; Supplier 1: Mouser; Supplier Part Number 1: 769-ADW1224HT; Supplier 2: Digi-Key; Supplier Part Number 2: ADW1224HT-ND; Packing: Carton, Case; RoHS: True; Series: DW Relays; Mounting Technology: Through Hole; ComponentLink1Description: Manufacturer URL; ComponentLink1URL: http://www3.panasonic.biz/ac/ae/index.jsp; ComponentLink2Description: Datasheet; ComponentLink2URL: http://www3.panasonic.biz/ac/e_download/control/relay/power/catalog/mech_eng_dw.pdf?f_cd=400632; ComponentLink3Description: Package Specification; ComponentLink3URL: http://www3.panasonic.biz/ac/e_download/control/relay/power/catalog/mech_eng_dw.pdf?f_cd=400632
footprint PNSC-DW-5-2400x1000x1880-B_V (DW, 5-Leads, Body 24x10mm)
pins: 1 -, 3, 5, 6 -, 7 +

## ADW1224HTW
designator K?
DW Relays, 24 V Coil Voltage, 400 mW Nominal Operating Power, -40 to 70 degC, 5-Pin DW-B, Carton, Case, RoHS; Manufacturer: Panasonic; PartNumber: ADW1224HTW; Coil Voltage: 24 V; Electrical Life: 2x10^4; Max Switching Current: 16 A AC; Max Switching Voltage: 277 V AC; Mechanical Life(Min.operation): 1x10^6; Nominal Operating Power: 400 mW; Pb-Free: True; DatasheetVersion: 201411-T; PackageVersion: ASCTB8E, 02/2014; PackageReference: DW-5-2400x1000x1880-B; PackageDescription: 5-Pin Through Hole Terminal Package, Body 24 x 10 mm; Supplier 1: Mouser; Supplier Part Number 1: 769-ADW1224HTW; Supplier 2: Digi-Key; Supplier Part Number 2: ADW1224HTW-ND; Packing: Carton, Case; RoHS: True; Series: DW Relays; Mounting Technology: Through Hole; ComponentLink1Description: Manufacturer URL; ComponentLink1URL: http://www3.panasonic.biz/ac/ae/index.jsp; ComponentLink2Description: Datasheet; ComponentLink2URL: http://www3.panasonic.biz/ac/e_download/control/relay/power/catalog/mech_eng_dw.pdf?f_cd=400632; ComponentLink3Description: Package Specification; ComponentLink3URL: http://www3.panasonic.biz/ac/e_download/control/relay/power/catalog/mech_eng_dw.pdf?f_cd=400632
footprint PNSC-DW-5-2400x1000x1880-B_V (DW, 5-Leads, Body 24x10mm)
pins: 1 -, 3, 5, 6 -, 7 +

## ADW1224T
designator K?
DW Relays, 24 V Coil Voltage, 400 mW Nominal Operating Power, -40 to 85 degC, 5-Pin DW-B, Carton, Case, RoHS; Manufacturer: Panasonic; PartNumber: ADW1224T; Coil Voltage: 24 V; Electrical Life: 5x10^4; Max Switching Current: 8 A AC; Max Switching Voltage: 250 V AC; Mechanical Life(Min.operation): 1x10^6; Nominal Operating Power: 400 mW; Pb-Free: True; DatasheetVersion: 201411-T; PackageVersion: ASCTB8E, 02/2014; PackageReference: DW-5-2400x1000x1880-B; PackageDescription: 5-Pin Through Hole Terminal Package, Body 24 x 10 mm; Supplier 1: Mouser; Supplier Part Number 1: N/A; Packing: Carton, Case; RoHS: True; Series: DW Relays; Mounting Technology: Through Hole; ComponentLink1Description: Manufacturer URL; ComponentLink1URL: http://www3.panasonic.biz/ac/ae/index.jsp; ComponentLink2Description: Datasheet; ComponentLink2URL: http://www3.panasonic.biz/ac/e_download/control/relay/power/catalog/mech_eng_dw.pdf?f_cd=400632; ComponentLink3Description: Package Specification; ComponentLink3URL: http://www3.panasonic.biz/ac/e_download/control/relay/power/catalog/mech_eng_dw.pdf?f_cd=400632
footprint PNSC-DW-5-2400x1000x1880-B_V (DW, 5-Leads, Body 24x10mm)
pins: 1 -, 3, 5, 6 -, 7 +

## ADW1224TW
designator K?
DW Relays, 24 V Coil Voltage, 400 mW Nominal Operating Power, -40 to 85 degC, 5-Pin DW-B, Carton, Case, RoHS; Manufacturer: Panasonic; PartNumber: ADW1224TW; Coil Voltage: 24 V; Electrical Life: 5x10^4; Max Switching Current: 8 A AC; Max Switching Voltage: 250 V AC; Mechanical Life(Min.operation): 1x10^6; Nominal Operating Power: 400 mW; Pb-Free: True; DatasheetVersion: 201411-T; PackageVersion: ASCTB8E, 02/2014; PackageReference: DW-5-2400x1000x1880-B; PackageDescription: 5-Pin Through Hole Terminal Package, Body 24 x 10 mm; Supplier 1: Mouser; Supplier Part Number 1: 769-ADW1224TW; Supplier 2: Digi-Key; Supplier Part Number 2: 255-3609-5-ND; Packing: Carton, Case; RoHS: True; Series: DW Relays; Mounting Technology: Through Hole; ComponentLink1Description: Manufacturer URL; ComponentLink1URL: http://www3.panasonic.biz/ac/ae/index.jsp; ComponentLink2Description: Datasheet; ComponentLink2URL: http://www3.panasonic.biz/ac/e_download/control/relay/power/catalog/mech_eng_dw.pdf?f_cd=400632; ComponentLink3Description: Package Specification; ComponentLink3URL: http://www3.panasonic.biz/ac/e_download/control/relay/power/catalog/mech_eng_dw.pdf?f_cd=400632
footprint PNSC-DW-5-2400x1000x1880-B_V (DW, 5-Leads, Body 24x10mm)
pins: 1 -, 3, 5, 6 -, 7 +

## ADW1224W
designator K?
DW Relays, 24 V Coil Voltage, 400 mW Nominal Operating Power, -40 to 85 degC, 5-Pin DW-W, Carton, Case, RoHS; Manufacturer: Panasonic; PartNumber: ADW1224W; Coil Voltage: 24 V; Electrical Life: 5x10^4; Max Switching Current: 8 A AC; Max Switching Voltage: 250 V AC; Mechanical Life(Min.operation): 1x10^6; Nominal Operating Power: 400 mW; Pb-Free: True; DatasheetVersion: 201411-T; PackageVersion: ASCTB8E, 02/2014; PackageReference: DW-5-2400x1000x1880-W; PackageDescription: 5-Pin Through Hole Terminal Package, Body 24 x 10 mm; Supplier 1: Mouser; Supplier Part Number 1: 769-ADW1224W; Supplier 2: Digi-Key; Supplier Part Number 2: 255-3120-ND; Packing: Carton, Case; RoHS: True; Series: DW Relays; Mounting Technology: Through Hole; ComponentLink1Description: Manufacturer URL; ComponentLink1URL: http://www3.panasonic.biz/ac/ae/index.jsp; ComponentLink2Description: Datasheet; ComponentLink2URL: http://www3.panasonic.biz/ac/e_download/control/relay/power/catalog/mech_eng_dw.pdf?f_cd=400632; ComponentLink3Description: Package Specification; ComponentLink3URL: http://www3.panasonic.biz/ac/e_download/control/relay/power/catalog/mech_eng_dw.pdf?f_cd=400632
footprint PNSC-DW-5-2400x1000x1880-W_V (DW, 5-Leads, Body 24x10mm)
pins: 1 -, 3, 5, 6 -, 7 +